# EAGLE library part 18R-JMCS-G (library jst-jmc)
0.5mm Pitch SMT Board to Board Connector Source: http://www.jst-mfg.com/product/pdf/jpn/JMC.pdf http://www.jst-mfg.com/product/detail.php?series=147
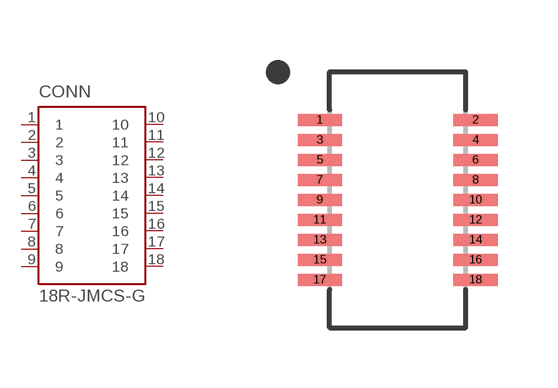
[diagram p12: symbol with the pads of 18R-JMCS-G-B-TF(S); footprint 18R-JMCS-G-B-TF(S)]

Designator prefix CONN

## 18R-JMCS-G-TF(S)  [18R-JMCS-G-B-TF(S)]
1  1
2  2
3  3
4  4
5  5
6  6
7  7
8  8
9  9
10  10
11  11
12  12
13  13
14  14
15  15
16  16
17  17
18  18

## Footprint 18R-JMCS-G-B-TF(S) (pad centres in mm)
smd 1.1 x 0.3: 1 -1.95,2; 2 1.95,2; 3 -1.95,1.5; 4 1.95,1.5; 5 -1.95,1; 6 1.95,1; 7 -1.95,0.5; 8 1.95,0.5; 9 -1.95,0; 10 1.95,0; 11 -1.95,-0.5; 12 1.95,-0.5; 13 -1.95,-1; 14 1.95,-1; 15 -1.95,-1.5; 16 1.95,-1.5; 17 -1.95,-2; 18 1.95,-2